# Altium footprint library IC_Texas_Instruments_BQ24259RGER_eec_0.PcbLib: 1 footprints
Each footprint in its own frame and in the unit in brackets; x right, y up, seen from the top. Pads: shape width x height; smd on the part's side, far side on the other; paste and mask are expansions set on the pad; w line width, h text height; cw(c..) or ccw(c..) is an arc to the next point about the centre after c.
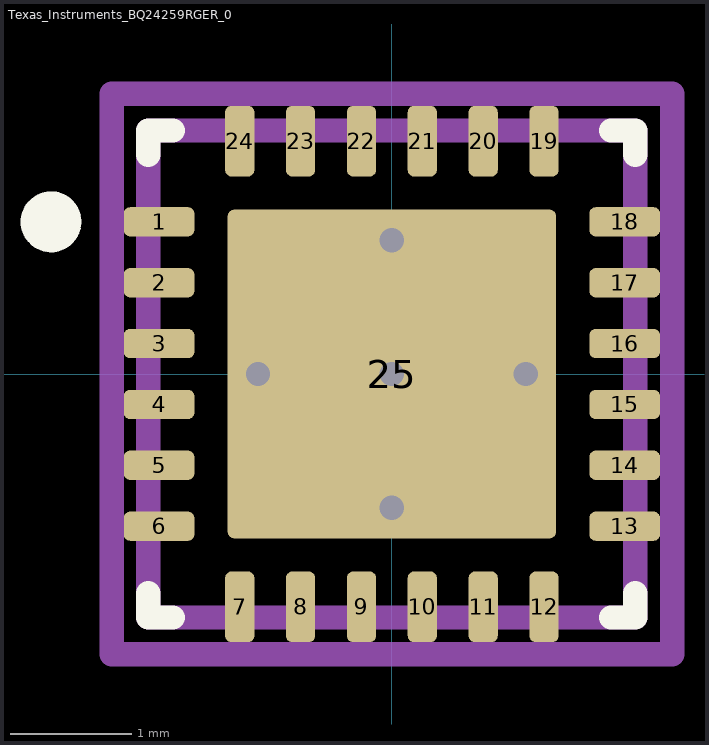
[diagram p0: the footprint, top view; thin cyan lines are the x and y axes]

## Texas_Instruments_BQ24259RGER_0 [mm]
pads (25):
  rrect42% 0.58x0.24 smd paste+0 mask+0: 1(-1.913,1.25) 2(-1.913,0.75) 3(-1.913,0.25) 4(-1.913,-0.25) 5(-1.913,-0.75) 6(-1.913,-1.25) 13(1.913,-1.25) 14(1.913,-0.75) 15(1.913,-0.25) 16(1.913,0.25) 17(1.913,0.75) 18(1.913,1.25)
  rrect42% 0.24x0.58 smd paste+0 mask+0: 7(-1.25,-1.913) 8(-0.75,-1.913) 9(-0.25,-1.913) 10(0.25,-1.913) 11(0.75,-1.913) 12(1.25,-1.913) 19(1.25,1.913) 20(0.75,1.913) 21(0.25,1.913) 22(-0.25,1.913) 23(-0.75,1.913) 24(-1.25,1.913)
  rrect4% 2.7x2.7 smd paste-1000 mask+0: 25(0,0)
via 0,1.1 diameter 0.5 hole 0.2
via 0,0 diameter 0.5 hole 0.2
via 0,-1.1 diameter 0.5 hole 0.2
via -1.1,0 diameter 0.5 hole 0.2
via 1.1,0 diameter 0.5 hole 0.2
Top Overlay:
  circle w0.25: c-2.8,1.25 r0.125
  lines w0.2: -2,-1.8 -2,-2 -1.8,-2 ; -2,1.8 -2,2 -1.8,2 ; 1.8,-2 2,-2 2,-1.8 ; 1.8,2 2,2 2,1.8
Top Paste:
  region: -0.1,-0.15 -0.1,-1.238 -0.1,-1.248 -0.108,-1.266 -0.122,-1.28 -0.14,-1.288 -0.15,-1.288 -1.238,-1.288 -1.248,-1.288 -1.266,-1.28 -1.28,-1.266 -1.288,-1.248 -1.288,-1.238 -1.288,-0.15 -1.288,-0.14 -1.28,-0.122 -1.266,-0.108 -1.248,-0.1 -1.238,-0.1 -0.15,-0.1 -0.14,-0.1 -0.122,-0.108 -0.108,-0.122 -0.1,-0.14
  region: -0.1,0.15 -0.1,0.14 -0.108,0.122 -0.122,0.108 -0.14,0.1 -0.15,0.1 -1.238,0.1 -1.248,0.1 -1.266,0.108 -1.28,0.122 -1.288,0.14 -1.288,0.15 -1.288,1.238 -1.288,1.248 -1.28,1.266 -1.266,1.28 -1.248,1.288 -1.238,1.288 -0.15,1.288 -0.14,1.288 -0.122,1.28 -0.108,1.266 -0.1,1.248 -0.1,1.238
  region: 0.1,0.15 0.1,1.238 0.1,1.248 0.108,1.266 0.122,1.28 0.14,1.288 0.15,1.288 1.238,1.288 1.248,1.288 1.266,1.28 1.28,1.266 1.288,1.248 1.288,1.238 1.288,0.15 1.288,0.14 1.28,0.122 1.266,0.108 1.248,0.1 1.238,0.1 0.15,0.1 0.14,0.1 0.122,0.108 0.108,0.122 0.1,0.14
  region: 0.15,-1.288 0.14,-1.288 0.122,-1.28 0.108,-1.266 0.1,-1.248 0.1,-1.238 0.1,-0.15 0.1,-0.14 0.108,-0.122 0.122,-0.108 0.14,-0.1 0.15,-0.1 1.238,-0.1 1.248,-0.1 1.266,-0.108 1.28,-0.122 1.288,-0.14 1.288,-0.15 1.288,-1.238 1.288,-1.248 1.28,-1.266 1.266,-1.28 1.248,-1.288 1.238,-1.288
Mechanical 10:
  lines w0.2: -2.302,-2.302 2.302,-2.302 2.302,2.302 -2.302,2.302 -2.302,-2.302
  text ".Designator" at 0,0.188 h1
Mechanical 12:
  lines w0.2: -2,-2 2,-2 2,2 -2,2 -2,-2
Mechanical 15:
  lines w0.1: -0.691,0 0.691,0 ; 0,-0.691 0,0.691
  lines w0.2: -2.302,-2.302 2.302,-2.302 2.302,2.302 -2.302,2.302 -2.302,-2.302
3D body "IC_Texas_Instruments_BQ24259RGER_eec.STEP": height 0.25, standoff 0, extent -2.302,-2.302 2.302,2.302